# Altium schematic symbol library sch_Mechanical.SchLib: 6 symbols
Pins are listed as number, name and electrical type; pins without a type are passive.

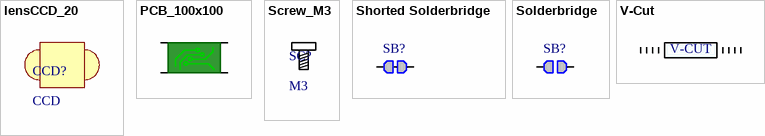
[diagram p0: symbols lensCCD_20 to V-Cut]

## lensCCD_20
designator CCD?, comment CCD

## PCB_100x100
designator PCB  (value not drawn)
PCB
pins: 1, 2, 3, 4

## Screw_M3
designator SC?, comment M3
Screw

## Shorted Solderbridge
designator SB?, comment Solderbridge  (value not drawn)  (no BOM)
Shorted Solderbridge; Value: Solderbridge
pins: 1, 2

## Solderbridge
designator SB?  (value not drawn)  (no BOM)
Value: Solderbridge
pins: 1, 2

## V-Cut
designator V-Cut  (value not drawn)
PCB
text: V-CUT